# EAGLE library part IV17 (library diego)
IV-17 VFD 18seg display
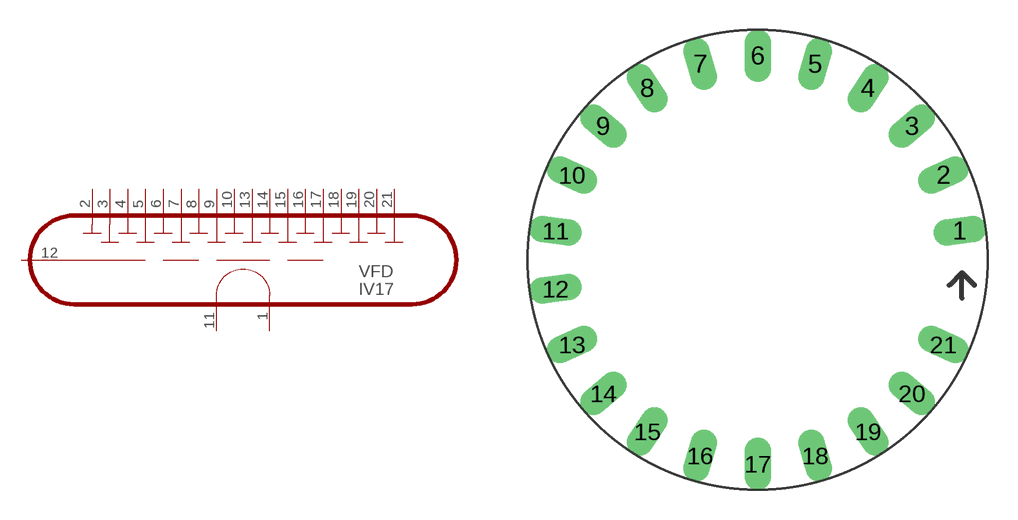
[diagram p0: symbol with the pads of CIRCULAR; footprint CIRCULAR]

Designator prefix VFD

## IV17  [CIRCULAR]
1  P$1
2  P$2  in
3  P$3  in
4  P$4  in
5  P$5  in
6  P$6  in
7  P$7  in
8  P$8  in
9  P$9  in
10  P$10  in
11  P$11
12  P$12  in
13  P$13  in
14  P$14  in
15  P$15  in
16  P$16  in
17  P$17  in
18  P$18  in
19  P$19  in
20  P$20  in
21  P$21  in

## Footprint CIRCULAR (pad centres in mm)
drill 0.8 long: 1 10.057,1.446; 2 9.242,4.221; 3 7.678,6.653; 4 5.493,8.547; 5 2.862,9.748; 6 0,10.16; 7 -2.862,9.748; 8 -5.493,8.547; 9 -7.678,6.653; 10 -9.242,4.221; 11 -10.057,1.446; 12 -10.057,-1.446; 13 -9.242,-4.221; 14 -7.678,-6.653; 15 -5.493,-8.547; 16 -2.862,-9.748; 17 0,-10.16; 18 2.862,-9.748; 19 5.493,-8.547; 20 7.678,-6.653; 21 9.242,-4.221